# Altium footprint library 691 337 500 0xx.PcbLib: 7 footprints
Each footprint in its own frame and in the unit in brackets; x right, y up, seen from the top. Pads: shape width x height; smd on the part's side, far side on the other; paste and mask are expansions set on the pad; w line width, h text height; cw(c..) or ccw(c..) is an arc to the next point about the centre after c.
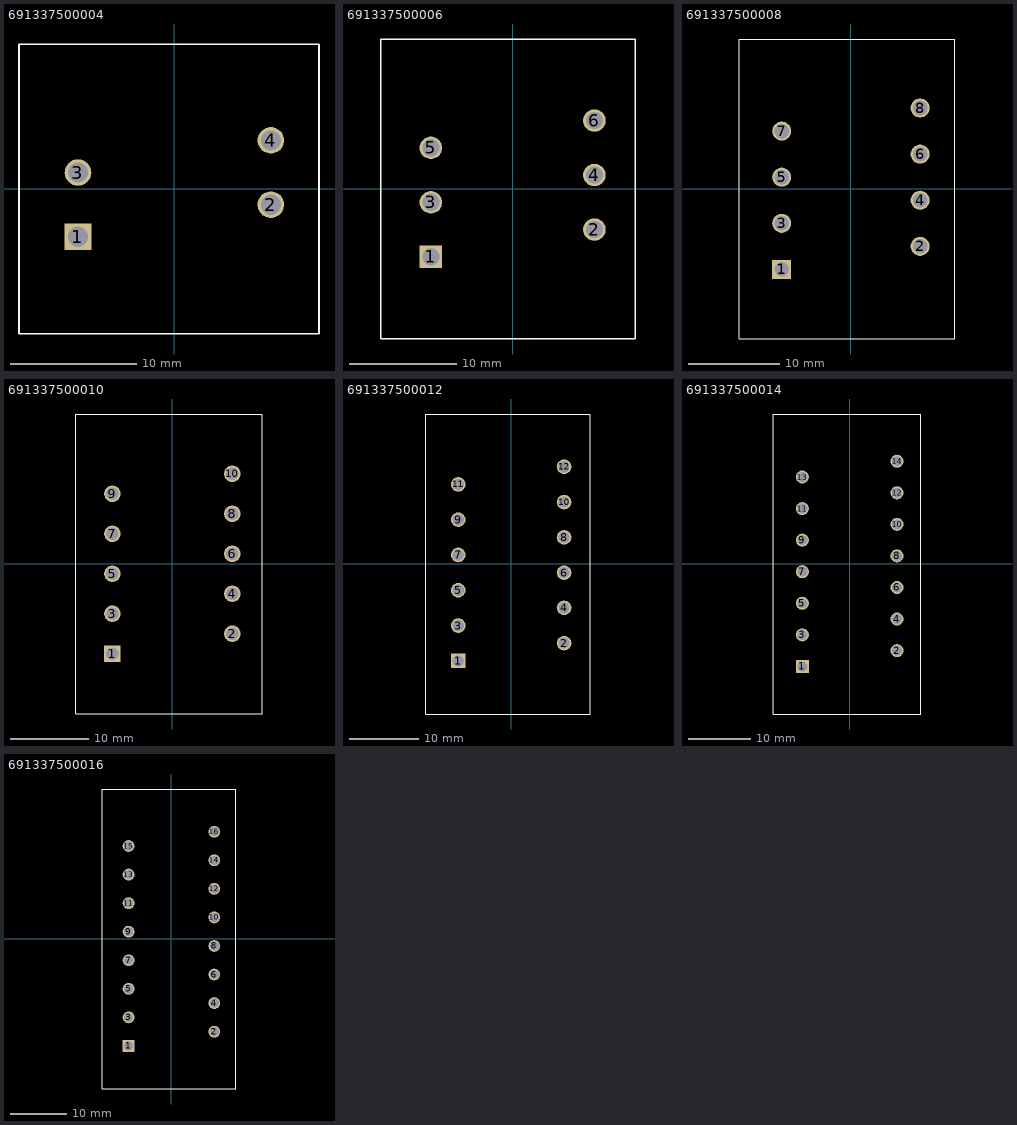
[diagram p0: the footprints below, top view; thin cyan lines are the x and y axes]

## 691337500004 [mm] "5,08mm - PCB - Dual row - Staggered - Vertical - Flanges - 04p"
height 22
pads (4):
  rect 2.1x2.1 hole 1.6: 1(-7.62,-3.81)
  round 2.1 hole 1.6: 2(7.62,-1.27) 3(-7.62,1.27) 4(7.62,3.81)
Top Overlay:
  lines w0.127: -12.28,-11.47 -12.28,11.41 11.42,11.41 11.42,-11.47 -12.28,-11.47
3D body: height 22.01, standoff -3.89, extent -12.28,-11.47 11.42,11.39

## 691337500006 [mm] "5,08mm - PCB - Dual row - Staggered - Vertical - Flanges - 06p"
height 22
pads (6):
  rect 2.1x2.1 hole 1.6: 1(-7.62,-6.35)
  round 2.1 hole 1.6: 2(7.62,-3.81) 3(-7.62,-1.27) 4(7.62,1.27) 5(-7.62,3.81) 6(7.62,6.35)
Top Overlay:
  lines w0.127: -12.28,-8.93 -12.28,13.95 11.42,13.95 11.42,-14.01 -12.28,-14.01 -12.28,8.87
3D body: height 22.01, standoff -3.89, extent -12.28,-14.01 11.42,13.93

## 691337500008 [mm] "5,08mm - PCB - Dual row - Staggered - Vertical - Flanges - 08p"
height 22
pads (8):
  rect 2.1x2.1 hole 1.6: 1(-7.62,-8.89)
  round 2.1 hole 1.6: 2(7.62,-6.35) 3(-7.62,-3.81) 4(7.62,-1.27) 5(-7.62,1.27) 6(7.62,3.81) 7(-7.62,6.35) 8(7.62,8.89)
Top Overlay:
  lines w0.127: -12.28,-6.39 -12.28,16.49 11.42,16.49 11.42,-6.39 ; -12.28,6.33 -12.28,-16.55 11.42,-16.55 11.42,6.33
3D body: height 22.01, standoff -3.89, extent -12.28,-16.55 11.42,16.47

## 691337500010 [mm] "5,08mm - PCB - Dual row - Staggered - Vertical - Flanges - 10p"
height 22
pads (10):
  rect 2.1x2.1 hole 1.6: 1(-7.62,-11.43)
  round 2.1 hole 1.6: 2(7.62,-8.89) 3(-7.62,-6.35) 4(7.62,-3.81) 5(-7.62,-1.27) 6(7.62,1.27) 7(-7.62,3.81) 8(7.62,6.35) 9(-7.62,8.89) 10(7.62,11.43)
Top Overlay:
  lines w0.127: -12.28,-8.93 -12.28,13.95 ; -12.28,-3.85 -12.28,19.03 11.42,19.03 11.42,-3.85 ; -12.28,3.79 -12.28,-19.09 11.42,-19.09 11.42,3.79
3D body: height 22.01, standoff -3.89, extent -12.28,-19.09 11.42,19.01

## 691337500012 [mm] "5,08mm - PCB - Dual row - Staggered - Vertical - Flanges - 12p"
height 22
pads (12):
  rect 2.1x2.1 hole 1.6: 1(-7.62,-13.97)
  round 2.1 hole 1.6: 2(7.62,-11.43) 3(-7.62,-8.89) 4(7.62,-6.35) 5(-7.62,-3.81) 6(7.62,-1.27) 7(-7.62,1.27) 8(7.62,3.81) 9(-7.62,6.35) 10(7.62,8.89) 11(-7.62,11.43) 12(7.62,13.97)
Top Overlay:
  lines w0.127: -12.28,-11.47 -12.28,11.41 ; -12.28,-1.31 -12.28,21.57 11.38,21.57 11.38,-1.31 ; -12.28,1.25 -12.28,-21.63 11.38,-21.63 11.38,1.25
3D body: height 22.01, standoff -3.89, extent -12.28,-21.63 11.42,21.55

## 691337500014 [mm] "5,08mm - PCB - Dual row - Staggered - Vertical - Flanges - 14p"
height 22
pads (14):
  rect 2.1x2.1 hole 1.6: 1(-7.62,-16.51)
  round 2.1 hole 1.6: 2(7.62,-13.97) 3(-7.62,-11.43) 4(7.62,-8.89) 5(-7.62,-6.35) 6(7.62,-3.81) 7(-7.62,-1.27) 8(7.62,1.27) 9(-7.62,3.81) 10(7.62,6.35) 11(-7.62,8.89) 12(7.62,11.43) 13(-7.62,13.97) 14(7.62,16.51)
Top Overlay:
  lines w0.127: -12.28,-14.01 -12.28,8.87 ; -12.28,-3.85 -12.28,19.03 ; -12.28,-1.29 -12.28,-24.17 11.42,-24.17 11.42,-1.29 11.42,24.11 -12.28,24.11 -12.28,1.23
3D body: height 22.01, standoff -3.89, extent -12.28,-24.17 11.42,24.09

## 691337500016 [mm] "5,08mm - PCB - Dual row - Staggered - Vertical - Flanges - 16p"
height 22
pads (16):
  rect 2.1x2.1 hole 1.6: 1(-7.62,-19.05)
  round 2.1 hole 1.6: 2(7.62,-16.51) 3(-7.62,-13.97) 4(7.62,-11.43) 5(-7.62,-8.89) 6(7.62,-6.35) 7(-7.62,-3.81) 8(7.62,-1.27) 9(-7.62,1.27) 10(7.62,3.81) 11(-7.62,6.35) 12(7.62,8.89) 13(-7.62,11.43) 14(7.62,13.97) 15(-7.62,16.51) 16(7.62,19.05)
Top Overlay:
  lines w0.127: -12.28,-16.55 -12.28,6.33 ; -12.28,-6.39 -12.28,16.49 ; -12.28,-3.83 -12.28,-26.71 11.42,-26.71 11.42,2.49 11.42,26.65 -12.28,26.65 -12.28,3.77
3D body: height 22.01, standoff -3.89, extent -12.28,-26.71 11.42,26.63